# Altium schematic symbol library CustomComponents.SchLib: 1 symbol
Pins are listed as number, name and electrical type; pins without a type are passive.

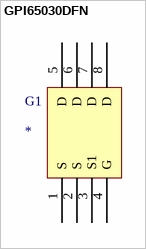
[diagram p0: symbol GPI65030DFN]

## GPI65030DFN
designator G1
pins: 1 S "Source", 2 S "Source", 3 S1 "Kelvin Source", 4 G "Gate", 5 D "Drain", 6 D "Drain", 7 D "Drain", 8 D "Drain"